# Altium footprint library WRL-13764.PcbLib: 1 footprints
Each footprint in its own frame and in the unit in brackets; x right, y up, seen from the top. Pads: shape width x height; smd on the part's side, far side on the other; paste and mask are expansions set on the pad; w line width, h text height; cw(c..) or ccw(c..) is an arc to the next point about the centre after c.
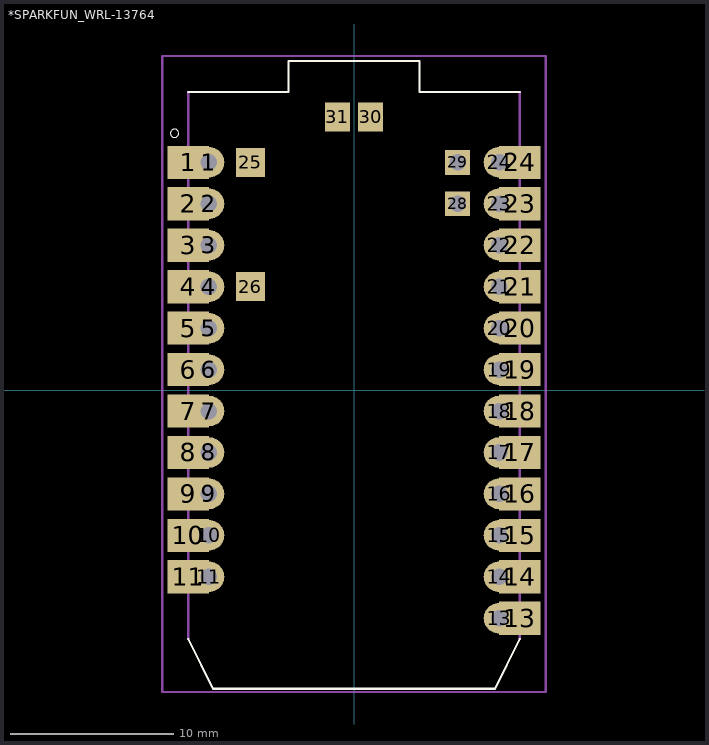
[diagram p0: the footprint, top view; thin cyan lines are the x and y axes]

## *SPARKFUN_WRL-13764 [mil]
pads (52):
  rect 100x80 smd: 1(-400,550) 2(-400,450) 3(-400,350) 4(-400,250) 5(-400,150) 6(-400,50) 7(-400,-50) 8(-400,-150) 9(-400,-250) 10(-400,-350) 11(-400,-450) 13(400,-550) 14(400,-450) 15(400,-350) 16(400,-250) 17(400,-150) 18(400,-50) 19(400,50) 20(400,150) 21(400,250) 22(400,350) 23(400,450) 24(400,550)
  round 74 hole 40: 1(-350,550) 2(-350,450) 3(-350,350) 4(-350,250) 5(-350,150) 6(-350,50) 8(-350,-150) 9(-350,-250) 11(-350,-450) 13(350,-550) 14(350,-450) 15(350,-350) 16(350,-250) 17(350,-150) 18(350,-50) 19(350,50) 20(350,150) 21(350,250) 22(350,350) 23(350,450) 24(350,550)
  round 74 hole 40 unplated: 7(-350,-50) 10(-350,-350)
  rect 70x70 smd: 25(-250,550) 26(-250,250)
  rect 60x60 hole 40: 28(250,450) 29(250,550)
  rect 60x70 smd: 30(40,660) 31(-40,660)
Top Overlay:
  circle w0: c-433.07,620.08 r10
  lines w5: -400,-600 -340,-720 340,-720 400,-600 ; -400,720 -158,720 -158,795 158,795 158,720 400,720
Mechanical 4:
  lines w5: -400,-600 -400,720 -400,-600 ; 400,-600 400,720 400,-600
Courtyard Bottom:
  lines w5: -462.6,-728.35 462.6,-728.35 462.6,807.09 -462.6,807.09 -462.6,-728.35
3D body: height 174, standoff 3.31, extent -401,-721.1 401,761.1